# Altium schematic symbol library MAX9111ESA.SchLib: 1 symbol
Pins are listed as number, name and electrical type; pins without a type are passive.

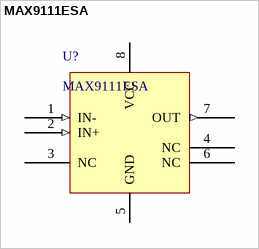
[diagram p0: symbol MAX9111ESA]

## MAX9111ESA
designator U?
pins: 1 IN- (in), 2 IN+ (in), 3 NC, 4 NC, 5 GND (power), 6 NC, 7 OUT (out), 8 VCC (power)